# Altium footprint library ESDA25W.PcbLib: 1 footprints
Each footprint in its own frame and in the unit in brackets; x right, y up, seen from the top. Pads: shape width x height; smd on the part's side, far side on the other; paste and mask are expansions set on the pad; w line width, h text height; cw(c..) or ccw(c..) is an arc to the next point about the centre after c.
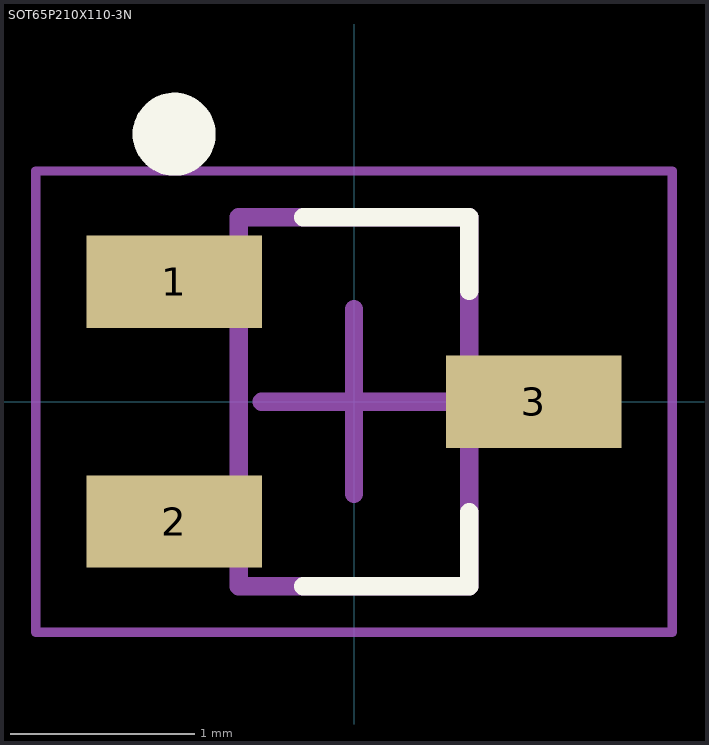
[diagram p0: the footprint, top view; thin cyan lines are the x and y axes]

## SOT65P210X110-3N [mm] "SOT23, 3-Leads, Body 2,00x2,10mm, Pitch 0,65mm, IPC Medium Density"
height 1.1
pads (3):
  rect 0.95x0.5 smd: 1(-0.975,0.65) 2(-0.975,-0.65) 3(0.975,0)
Top Overlay:
  circle w0.25: c-0.975,1.45 r0.1
  lines w0.1: -0.275,-1 0.625,-1 0.625,-0.6 ; -0.275,1 0.625,1 0.625,0.6
Top Assembly:
  lines w0.1: -0.625,-1 -0.625,1 0.625,1 0.625,-1 -0.625,-1
  text ".Designator" at -3.71,-0.344 h1.52
Top Courtyard:
  lines w0.05: -1.725,-1.25 -1.725,1.25 1.725,1.25 1.725,-1.25 -1.725,-1.25
  lines w0.1: -0.5,0 0.5,0 ; 0,-0.5 0,0.5
3D body "SOT65P210X110-3N.step": height 1.1, standoff 0, extent -1.05,-1 1.05,1